# Altium footprint library PcbLib.PcbLib: 4 footprints
Each footprint in its own frame and in the unit in brackets; x right, y up, seen from the top. Pads: shape width x height; smd on the part's side, far side on the other; paste and mask are expansions set on the pad; w line width, h text height; cw(c..) or ccw(c..) is an arc to the next point about the centre after c.
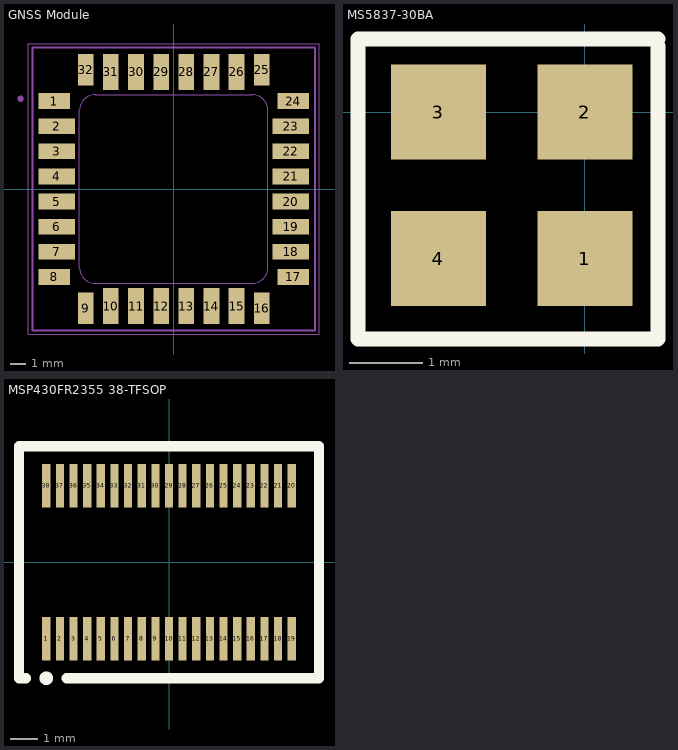
[diagram p0: the footprints below, top view; thin cyan lines are the x and y axes]

## GNSS Module [mm]
height 6.35
pads (32):
  rect 2x1 smd mask+0.1: 1(-7.6,5.6) 8(-7.6,-5.6) 17(7.6,-5.6) 24(7.6,5.6)
  rect 2.3x1 smd mask+0.1: 2(-7.45,4) 3(-7.45,2.4) 4(-7.45,0.8) 5(-7.45,-0.8) 6(-7.45,-2.4) 7(-7.45,-4) 18(7.45,-4) 19(7.45,-2.4) 20(7.45,-0.8) 21(7.45,0.8) 22(7.45,2.4) 23(7.45,4)
  rect 1x2 smd mask+0.1: 9(-5.6,-7.6) 16(5.6,-7.6) 25(5.6,7.6) 32(-5.6,7.6)
  rect 1x2.3 smd mask+0.1: 10(-4,-7.45) 11(-2.4,-7.45) 12(-0.8,-7.45) 13(0.8,-7.45) 14(2.4,-7.45) 15(4,-7.45) 26(4,7.45) 27(2.4,7.45) 28(0.8,7.45) 29(-0.8,7.45) 30(-2.4,7.45) 31(-4,7.45)
Mechanical 1:
  lines w0: -6,-5 ccw(c-5,-5) -5,-6 5,-6 ccw(c5,-5) 6,-5 6,5 ccw(c5,5) 5,6 -5,6 ccw(c-5,5) -6,5 -6,-5
Mechanical 13:
  circle w0.2: c-9.75,5.75 r0.1
  lines w0.127: -9,-9 9,-9 9,9 -9,9 -9,-9
Mechanical 15:
  lines w0.05: -9.25,-9.25 9.25,-9.25 9.25,9.25 -9.25,9.25 -9.25,-9.25
3D body "step_temp.STEP": height 6.2, standoff 0, extent -9,-9 9,9

## MS5837-30BA [mm]
pads (4):
  rect 1.3x1.3 smd: 1(0,-2) 2(0,0) 3(-2,0) 4(-2,-2)
Top Overlay:
  lines w0.2: 1,0.9 1,-3.1 -3.1,-3.1 -3.1,1 1,1

## MSP430FR2355 38-TFSOP [mm]
pads (38):
  rect 0.3x1.6 smd paste-0.025 mask+0.05: 1(-4.5,-2.8) 2(-4,-2.8) 3(-3.5,-2.8) 4(-3,-2.8) 5(-2.5,-2.8) 6(-2,-2.8) 7(-1.5,-2.8) 8(-1,-2.8) 9(-0.5,-2.8) 10(0,-2.8) 11(0.5,-2.8) 12(1,-2.8) 13(1.5,-2.8) 14(2,-2.8) 15(2.5,-2.8) 16(3,-2.8) 17(3.5,-2.8) 18(4,-2.8) 19(4.5,-2.8) 20(4.5,2.8) 21(4,2.8) 22(3.5,2.8) 23(3,2.8) 24(2.5,2.8) 25(2,2.8) 26(1.5,2.8) 27(1,2.8) 28(0.5,2.8) 29(0,2.8) 30(-0.5,2.8) 31(-1,2.8) 32(-1.5,2.8) 33(-2,2.8) 34(-2.5,2.8) 35(-3,2.8) 36(-3.5,2.8) 37(-4,2.8) 38(-4.5,2.8)
Top Overlay:
  circle w0.25: c-4.5,-4.25 r0.125
  lines w0.381: -3.75,-4.25 5.5,-4.25 5.5,4.25 -5.5,4.25 -5.5,-4.25 ; -5.5,-4.25 -5.5,-4.25 ; -5.5,-4.25 -5.25,-4.25 ; -5.25,-4.25 -5.25,-4.25
3D body: height 1.2, standoff 0.05, extent -4.9,-2.2 4.9,2.2

## PCBComponent_1 [mm]